# Altium footprint library 遥控3.2.PcbLib: 18 footprints (part 1 of 2)
Each footprint in its own frame and in the unit in brackets; x right, y up, seen from the top. Pads: shape width x height; smd on the part's side, far side on the other; paste and mask are expansions set on the pad; w line width, h text height; cw(c..) or ccw(c..) is an arc to the next point about the centre after c.
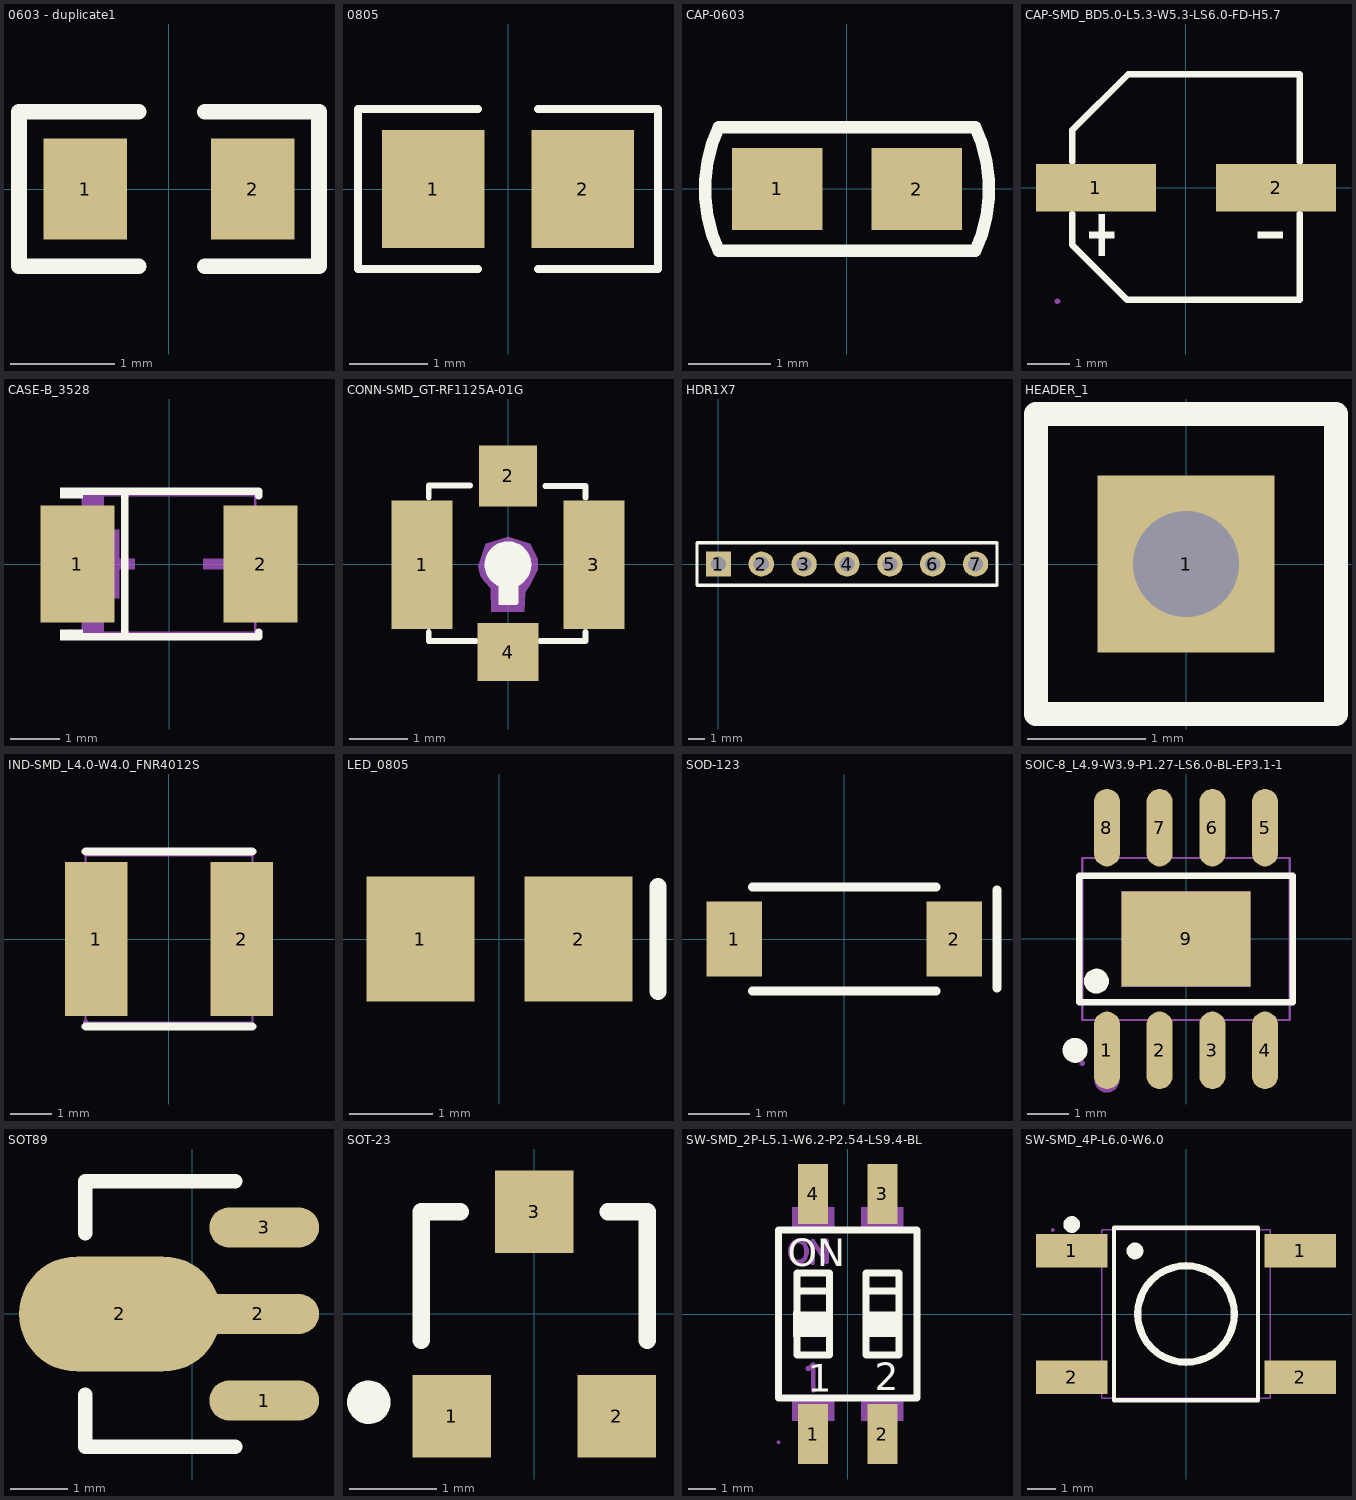
[diagram p0: the footprints below, top view; thin cyan lines are the x and y axes]

## 0603 - duplicate1 [mm] "贴片带丝印"
height 0.6
pads (2):
  rect 0.8x0.965 smd: 1(-0.8,0) 2(0.8,0)
Top Overlay:
  lines w0.15: -0.292,-0.74 -1.435,-0.74 -1.435,0.74 -0.292,0.74 ; 0.343,-0.74 1.435,-0.74 1.435,0.74 0.343,0.74
3D body "RES0603.STEP": height 0.45, standoff 0, extent -0.838,-0.41 0.762,0.41

## 0805 [mm] "贴片带丝印"
height 1.1
pads (2):
  rect 1.3x1.5 smd: 1(-0.95,0) 2(0.95,0)
Top Overlay:
  lines w0.1: -0.381,-1.016 -1.905,-1.016 -1.905,1.016 -0.381,1.016 ; 0.381,-1.016 1.905,-1.016 1.905,1.016 0.381,1.016
3D body "res_0805.stp": height 0.85, standoff 0.2, extent -1,-0.6 1,0.6

## CAP-0603 [mm] "贴片电容"
height 0.6
pads (2):
  rect 1.1x1 smd: 1(-0.85,0) 2(0.85,0)
Top Overlay:
  lines w0.15: -1.563,-0.751 cw(c0.048,0) -1.563,0.751 1.563,0.751 cw(c-0.048,0) 1.563,-0.751 -1.563,-0.751
3D body "CAP_0603.STEP": height 0.78, standoff 0.02, extent -0.762,-0.381 0.762,0.381

## CAP-SMD_BD5.0-L5.3-W5.3-LS6.0-FD-H5.7 [mm]
pads (2):
  rect 2.8x1.1 smd paste+0.051: 1(-2.1,0) 2(2.1,0)
Top Overlay:
  region: 2.256,-1.032 2.256,-1.176 1.68,-1.176 1.68,-1.032
  region: -2.256,-1.032 -2.256,-1.176 -1.68,-1.176 -1.68,-1.032
  region: -2.04,-0.624 -2.04,-1.584 -1.896,-1.584 -1.896,-0.624
  lines w0.152: -2.659,-0.607 -2.659,-1.331 -1.372,-2.619 2.649,-2.619 2.649,-0.607 ; -2.659,0.607 -2.659,1.341 -1.349,2.649 2.659,2.649 2.659,0.607
Mechanical 2:
  region: 2.256,0.072 2.256,-0.072 1.68,-0.072 1.68,0.072
  region: -2.256,0.072 -2.256,-0.072 -1.68,-0.072 -1.68,0.072
  region: -2.04,0.48 -2.04,-0.48 -1.896,-0.48 -1.896,0.48
Mechanical 6:
  lines w0.051: -2.65,-1.35 -2.65,1.35 -1.35,2.65 2.65,2.65 2.65,-2.65 -1.35,-2.65 -2.65,-1.35
Mechanical 8:
  region: -2.94,-2.65 -2.94,-2.675 -2.975,-2.71 -3.025,-2.71 -3.06,-2.675 -3.06,-2.65 -3.06,-2.625 -3.025,-2.59 -2.975,-2.59 -2.94,-2.625
Mechanical 9:
  region: -3,0.33 -0.9,0.33 -0.9,-0.32 -3,-0.32
  region: 3,-0.32 0.9,-0.32 0.9,0.33 3,0.33

## CASE-B_3528 [mm]
pads (2):
  rect 1.506x2.376 smd paste+0.051: 1(-1.861,0) 2(1.861,0)
Top Overlay:
  region: -1.75,-1.552 -1.75,-1.34 -2.207,-1.34 -2.207,-1.552
  region: -1.75,1.552 -1.75,1.34 -2.207,1.34 -2.207,1.552
  lines w0.152: -1.826,-1.476 1.826,-1.476 1.826,-1.391 ; -1.826,1.476 1.826,1.476 1.826,1.391 ; -0.904,-1.476 -0.904,1.476
Mechanical 2:
  region: 1.54,0.105 1.54,-0.105 0.7,-0.105 0.7,0.105
  region: -1.54,0.105 -1.54,-0.105 -0.7,-0.105 -0.7,0.105
  region: -1.225,0.7 -1.225,-0.7 -1.015,-0.7 -1.015,0.7
  region: -1.75,1.4 -1.75,0.7 -1.33,0.7 -1.33,1.4
  region: -1.75,-1.4 -1.75,-0.7 -1.33,-0.7 -1.33,-1.4
Mechanical 6:
  lines w0.051: -1.75,-1.4 1.75,-1.4 1.75,1.4 -1.75,1.4 -1.75,-1.4
Mechanical 8:
  region: -1.92,-1.4 -1.92,-1.425 -1.955,-1.46 -2.005,-1.46 -2.04,-1.425 -2.04,-1.4 -2.04,-1.375 -2.005,-1.34 -1.955,-1.34 -1.92,-1.375
Mechanical 9:
  region: 1.98,1.1 1.98,-1.1 1.28,-1.1 1.28,1.1
  region: -1.98,1.1 -1.98,-1.1 -1.28,-1.1 -1.28,1.1

## CONN-SMD_GT-RF1125A-01G [mm]
height 7.01
pads (4):
  rect 1.05x2.2 smd paste+0 mask+0.05: 1(-1.475,-0.012) 3(1.475,-0.012)
  rect 1x1.05 smd paste+0 mask+0.05: 2(0,1.513)
  rect 1.05x1 smd paste+0 mask+0.05: 4(0,-1.513)
Top Overlay:
  circle w0.4: c0,-0.012 r0.2
  region: 0.18,-0.672 0.18,-0.355 0.17,-0.345 -0.16,-0.345 -0.16,-0.69 -0.15,-0.7 0.152,-0.7
  lines w0.1: -1.36,-1.167 -1.36,-1.323 -0.554,-1.323 ; -1.36,1.142 -1.36,1.347 -0.65,1.347 ; 0.554,-1.323 1.33,-1.323 1.33,-1.167 ; 0.64,1.337 1.33,1.337 1.33,1.142
Mechanical 6:
  region: 0.28,-0.822 0.3,-0.482 0.381,-0.355 0.508,-0.101 0.508,0.09 0.381,0.344 0,0.471 -0.381,0.344 -0.508,-0.037 -0.48,-0.192 -0.41,-0.292 -0.3,-0.418 -0.29,-0.832
Mechanical 15:
  region: -0.29,-1.293 0.28,-1.293 0.28,-1.593 -0.29,-1.593
  region: 0.28,1.207 -0.29,1.207 -0.29,1.508 0.28,1.508
  region: -1.12,0.868 -1.12,-0.893 -1.5,-0.893 -1.5,0.868
  region: 1.5,0.868 1.5,-0.893 1.12,-0.893 1.12,0.868

## HDR1X7 [mm] "Connector; Header; 7 Position"
pads (7):
  rect 1.5x1.5 hole 0.9: 1(0,0)
  round 1.5 hole 0.9: 2(2.54,0) 3(5.08,0) 4(7.62,0) 5(10.16,0) 6(12.7,0) 7(15.24,0)
Top Overlay:
  lines w0.2: -1.27,-1.27 16.51,-1.27 16.51,1.27 -1.27,1.27 -1.27,-1.27

## HEADER_1 [mm] "2.54排针-3x1"
height 7.01
pads (1):
  rect 1.5x1.5 hole 0.9: 1(0,0)
Top Overlay:
  lines w0.2: -1.27,-1.27 -1.27,1.27 1.27,1.27 1.27,-1.27 -1.27,-1.27

## IND-SMD_L4.0-W4.0_FNR4012S [mm]
height 7.01
pads (2):
  rect 1.5x3.7 smd: 1(-1.75,0) 2(1.75,0)
Top Overlay:
  lines w0.203: -2,-2.1 2,-2.1 ; -2,2.1 2,2.1
Mechanical 15:
  region: -2,-1.75 -2,1.75 -1.05,1.75 -1.05,-1.75
  region: 2,1.75 2,-1.75 1.05,-1.75 1.05,1.75
  region: -1.94,-2 -1.94,-2.025 -1.975,-2.06 -2.025,-2.06 -2.06,-2.025 -2.06,-2 -2.06,-1.975 -2.025,-1.94 -1.975,-1.94 -1.94,-1.975
  lines w0.051: -2,-2 2,-2 2,2 -2,2 -2,-2

## LED_0805 [mm] "贴片二极管"
height 1.1
pads (2):
  rect 1.3x1.5 smd: 1(-0.95,0) 2(0.95,0)
Top Overlay:
  lines w0.2: 1.905,-0.635 1.905,0.635
3D body "LED0805-Blue.STEP": height 1.1, standoff 0, extent -1.01,-0.625 1.01,0.625

## SOD-123 [mm]
height 7.01
pads (2):
  rect 0.91x1.22 smd: 1(-1.8,0) 2(1.8,0)
Top Overlay:
  lines w0.15: -1.5,-0.85 1.5,-0.85 ; -1.5,0.85 1.5,0.85 ; 2.5,-0.8 2.5,0.8
3D body "1n4148w_c7420318.step": height 1.18, standoff 0, extent -1.85,-0.775 1.85,0.776

## SOIC-8_L4.9-W3.9-P1.27-LS6.0-BL-EP3.1-1 [mm]
height 7.01
pads (9):
  oval 0.63x1.865 smd: 1(-1.905,-2.683) 2(-0.635,-2.683) 3(0.635,-2.683) 4(1.905,-2.683) 5(1.905,2.682) 6(0.635,2.682) 7(-0.635,2.682) 8(-1.905,2.682)
  rect 3.1x2.3 smd paste+0 mask+0.05: 9(0,0)
Top Overlay:
  circle w0.3: c-2.159,-1.016 r0.15
  circle w0.3: c-2.672,-2.683 r0.15
  lines w0.152: -2.576,1.521 2.576,1.521 2.576,-1.521 -2.576,-1.521 -2.576,1.521
Mechanical 6:
  circle w0.3: c-1.905,-3.4 r0.15
Mechanical 15:
  region: -1.55,1.15 1.55,1.15 1.55,-1.15 -1.55,-1.15
  region: 1.705,1.94 1.705,2.175 2.105,2.175 2.105,1.94
  region: 1.705,2.165 1.705,3 2.105,3 2.105,2.165
  region: 0.435,1.94 0.435,2.175 0.835,2.175 0.835,1.94
  region: 0.435,2.165 0.435,3 0.835,3 0.835,2.165
  region: -0.835,1.94 -0.835,2.175 -0.435,2.175 -0.435,1.94
  region: -0.835,2.165 -0.835,3 -0.435,3 -0.435,2.165
  region: -2.105,1.94 -2.105,2.175 -1.705,2.175 -1.705,1.94
  region: -2.105,2.165 -2.105,3 -1.705,3 -1.705,2.165
  region: 1.705,-2.175 1.705,-1.94 2.105,-1.94 2.105,-2.175
  region: 1.705,-3 1.705,-2.165 2.105,-2.165 2.105,-3
  region: 0.435,-2.175 0.435,-1.94 0.835,-1.94 0.835,-2.175
  region: 0.435,-3 0.435,-2.165 0.835,-2.165 0.835,-3
  region: -0.835,-2.175 -0.835,-1.94 -0.435,-1.94 -0.435,-2.175
  region: -0.835,-3 -0.835,-2.165 -0.435,-2.165 -0.435,-3
  region: -2.105,-2.175 -2.105,-1.94 -1.705,-1.94 -1.705,-2.175
  region: -2.105,-3 -2.105,-2.165 -1.705,-2.165 -1.705,-3
  region: -2.44,-3 -2.44,-3.025 -2.475,-3.06 -2.525,-3.06 -2.56,-3.025 -2.56,-3 -2.56,-2.975 -2.525,-2.94 -2.475,-2.94 -2.44,-2.975
  lines w0.051: -2.5,-1.95 2.5,-1.95 2.5,1.95 -2.5,1.95 -2.5,-1.95

## SOT89 [mm] "SOT89封装"
height 7.01
pads (4):
  oval 1.9x0.7 smd: 1(1.25,-1.5) 3(1.25,1.5)
  oval 3.5x2 smd: 2(-1.25,0)
  oval 2.1x0.7 smd: 2(1.151,0)
Top Overlay:
  lines w0.254: -1.85,-1.4 -1.85,-2.3 0.75,-2.3 ; -1.85,1.4 -1.85,2.3 0.75,2.3
3D body "SOT89.STEP": height 1.5, standoff 0, extent -2.3,-2.25 1.7,2.25

## SOT-23 [mm]
height 1.1
pads (3):
  rect 0.9x0.95 smd: 1(-0.95,-1.175) 2(0.95,-1.175) 3(0,1.175)
Top Overlay:
  circle w0.25: c-1.903,-1.016 r0.125
  lines w0.2: -1.3,-0.3 -1.3,1.175 -0.85,1.175 ; 0.85,1.175 1.3,1.175 1.3,-0.3
3D body "MOSFET-SOT-23.STEP": height 1.15, standoff 0.05, extent -1.5,-1.25 1.5,1.25

## SW-SMD_2P-L5.1-W6.2-P2.54-LS9.4-BL [mm]
pads (4):
  rect 1.1x2.2 smd: 1(-1.27,-4.4) 2(1.27,-4.4) 3(1.27,4.4) 4(-1.27,4.4)
Top Overlay:
  region: 0.543,0.077 1.897,0.077 1.897,-0.827 0.543,-0.827
  region: -1.997,0.077 -0.643,0.077 -0.643,-0.827 -1.997,-0.827
  lines w0.254: -1.87,0.85 -0.67,0.85 ; 0.67,0.85 1.87,0.85 ; -2.54,-3.075 -2.54,3.075 2.54,3.075 2.54,-3.075 -2.54,-3.075 ; -1.87,-1.5 -1.87,1.5 -0.67,1.5 -0.67,-1.5 -1.87,-1.5 ; 0.67,-1.5 0.67,1.5 1.87,1.5 1.87,-1.5 0.67,-1.5
  text "2" at 0.98,-2.8 h1
  text "1" at -1.47,-2.85 h1
  text "ON" at -2.21,1.75 h1
Mechanical 2:
  drawing of 4 lines, arcs and shapes, not listed
Mechanical 6:
  lines w0.051: -2.54,-3.075 2.54,-3.075 2.54,3.075 -2.54,3.075 -2.54,-3.075
Mechanical 7:
  region: 0.5,-3.915 0.5,-3.065 2.04,-3.065 2.04,-3.915
  region: 0.5,3.065 0.5,3.915 2.04,3.915 2.04,3.065
  region: -2.04,-3.915 -2.04,-3.065 -0.5,-3.065 -0.5,-3.915
  region: -2.04,3.065 -2.04,3.915 -0.5,3.915 -0.5,3.065
Mechanical 8:
  region: -2.48,-4.7 -2.48,-4.725 -2.515,-4.76 -2.565,-4.76 -2.6,-4.725 -2.6,-4.7 -2.6,-4.675 -2.565,-4.64 -2.515,-4.64 -2.48,-4.675 -2.48,-4.7
Mechanical 9:
  region: 0.97,-4.7 0.97,-3.905 1.57,-3.905 1.57,-4.7
  region: -1.57,-4.7 -1.57,-3.905 -0.97,-3.905 -0.97,-4.7
  region: -1.57,3.905 -1.57,4.7 -0.97,4.7 -0.97,3.905
  region: 0.97,3.905 0.97,4.7 1.57,4.7 1.57,3.905
3D body "2.54-2p tpgt.step": height 3.97, standoff -0.03, extent -2.55,-4.7 2.54,4.7

## SW-SMD_4P-L6.0-W6.0 [mm]
pads (4):
  rect 2.55x1.2 smd: 1(-4.075,2.25) 1(4.075,2.25) 2(-4.075,-2.25) 2(4.075,-2.25)
Top Overlay:
  circle w0.254: c0,0 r1.721
  circle w0.3: c-4.075,3.192 r0.15
  circle w0.3: c-1.819,2.25 r0.15
  lines w0.152: -2.571,-3.076 -2.571,3.076 2.571,3.076 2.571,-3.076 -2.571,-3.076
Mechanical 15:
  region: 3.76,-1.9 2.99,-1.9 2.99,-2.6 3.76,-2.6
  region: 4.75,-1.9 3.75,-1.9 3.75,-2.6 4.75,-2.6
  region: 3.76,2.6 2.99,2.6 2.99,1.9 3.76,1.9
  region: 4.75,2.6 3.75,2.6 3.75,1.9 4.75,1.9
  region: -3.76,-1.9 -2.99,-1.9 -2.99,-2.6 -3.76,-2.6
  region: -4.75,-1.9 -3.75,-1.9 -3.75,-2.6 -4.75,-2.6
  region: -3.76,2.6 -2.99,2.6 -2.99,1.9 -3.76,1.9
  region: -4.75,2.6 -3.75,2.6 -3.75,1.9 -4.75,1.9
  region: -4.69,3 -4.691,3.024 -4.726,3.057 -4.774,3.057 -4.809,3.024 -4.81,3 -4.809,2.976 -4.774,2.942 -4.726,2.942 -4.691,2.976 -4.69,3
  lines w0.051: -3,-3 -3,3 3,3 3,-3 -3,-3
3D body "kh-6x6x10h-smt-fs-d.step": height 7.42, standoff 0.02, extent -4.75,-3 4.75,3